# Altium footprint library VLS2010E.PcbLib: 1 footprints
Each footprint in its own frame and in the unit in brackets; x right, y up, seen from the top. Pads: shape width x height; smd on the part's side, far side on the other; paste and mask are expansions set on the pad; w line width, h text height; cw(c..) or ccw(c..) is an arc to the next point about the centre after c.
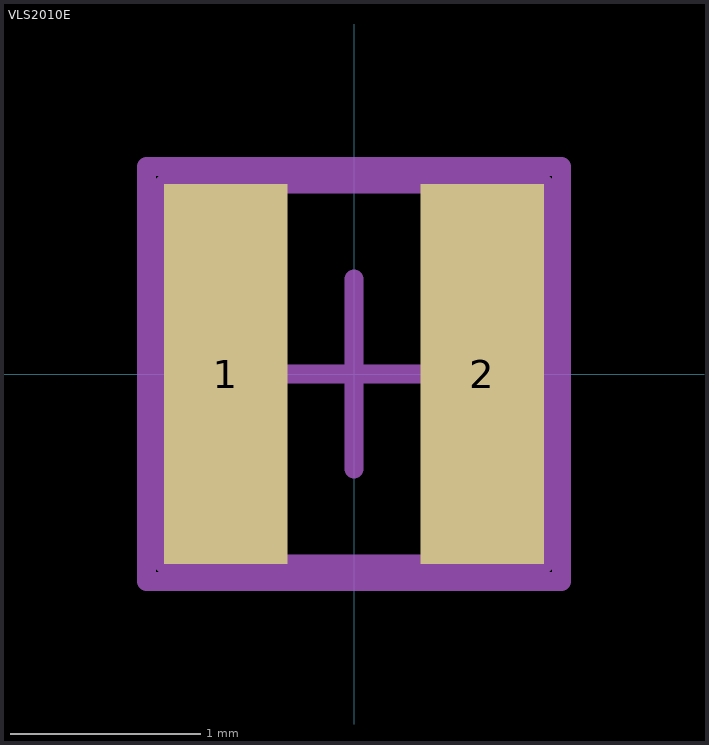
[diagram p0: the footprint, top view; thin cyan lines are the x and y axes]

## VLS2010E [mm] "Inductor"
height 1.016
pads (2):
  rect 0.65x2 smd: 1(-0.675,0) 2(0.675,0)
Mechanical 13:
  lines w0.1: -1,-1 1,-1 1,1 -1,1 -1,-1
Mechanical 15:
  lines w0.1: -0.5,0 0.5,0 ; 0,-0.5 0,0.5 ; -1.092,-1.092 1.092,-1.092 1.092,1.092 -1.092,1.092 -1.092,-1.092
3D body: height 1, standoff 0, extent -0.991,-0.991 0.991,0.991